# Altium schematic symbol library RTL8211E-VB-CG.SchLib: 1 symbol
Pins are listed as number, name and electrical type; pins without a type are passive.

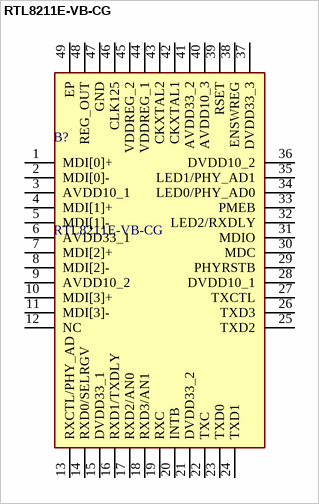
[diagram p0: symbol RTL8211E-VB-CG]

## RTL8211E-VB-CG
designator B?
h; Manufacturer_Name: Realtek; Geometry.Height: 1mm; Manufacturer_Part_Number: RTL8211E-VB-CG; Mouser Part Number: *; Mouser Price/Stock: *; Arrow Part Number: *; Arrow Price/Stock: *; Datasheet Link: http://download3.dvd-driver.cz/realtek/datasheets/pdf/rtl8211e(g)-vb(vl)-cg_datasheet_1.6.pdf
footprint QFN40P600X600X100-49N
pins: 1 MDI[0]+, 2 MDI[0]-, 3 AVDD10_1, 4 MDI[1]+, 5 MDI[1]-, 6 AVDD33_1, 7 MDI[2]+, 8 MDI[2]-, 9 AVDD10_2, 10 MDI[3]+, 11 MDI[3]-, 12 NC, 13 RXCTL/PHY_AD, 14 RXD0/SELRGV, 15 DVDD33_1, 16 RXD1/TXDLY, 17 RXD2/AN0, 18 RXD3/AN1, 19 RXC, 20 INTB, 21 DVDD33_2, 22 TXC, 23 TXD0, 24 TXD1, 25 TXD2, 26 TXD3, 27 TXCTL, 28 DVDD10_1, 29 PHYRSTB, 30 MDC, 31 MDIO, 32 LED2/RXDLY, 33 PMEB, 34 LED0/PHY_AD0, 35 LED1/PHY_AD1, 36 DVDD10_2, 37 DVDD33_3, 38 ENSWREG, 39 RSET, 40 AVDD10_3, 41 AVDD33_2, 42 CKXTAL1, 43 CKXTAL2, 44 VDDREG_1, 45 VDDREG_2, 46 CLK125, 47 GND, 48 REG_OUT, 49 EP